# Altium footprint library SOT343.PcbLib: 1 footprints
Each footprint in its own frame and in the unit in brackets; x right, y up, seen from the top. Pads: shape width x height; smd on the part's side, far side on the other; paste and mask are expansions set on the pad; w line width, h text height; cw(c..) or ccw(c..) is an arc to the next point about the centre after c.
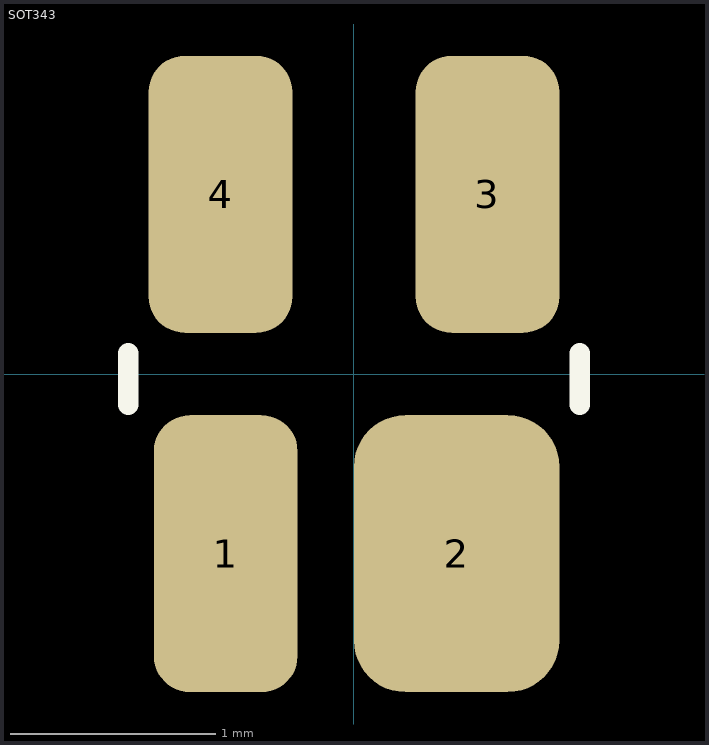
[diagram p0: the footprint, top view; thin cyan lines are the x and y axes]

## SOT343 [mm] "SOT-343; 4 Leads; Body 2.2 x 2.2 mm, inc. leads (LxW max)"
height 1
pads (4):
  rrect50% 0.7x1.35 smd: 1(-0.625,-0.875) 3(0.65,0.875) 4(-0.65,0.875)
  rrect50% 1x1.35 smd: 2(0.5,-0.875)
Top Overlay:
  lines w0.1: -1.1,-0.15 -1.1,0.1 ; 1.1,-0.15 1.1,0.1
3D body "SOT343.STEP": height 1, standoff 0, extent -1.1,-1.1 1.1,1.1